# Altium schematic symbol library ELM327.SchLib: 1 symbol
Pins are listed as number, name and electrical type; pins without a type are passive.

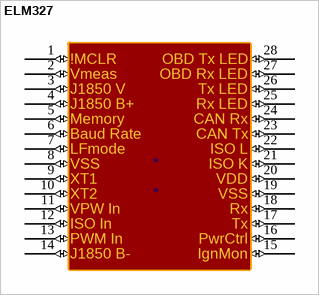
[diagram p0: symbol ELM327]

## ELM327
designator *
footprint DIP28
footprint SOIC28
pins: 1 (io), 2 (io), 3 (io), 4 (io), 5 (io), 6 (io), 7 (io), 8 (io), 9 (io), 10 (io), 11 (io), 12 (io), 13 (io), 14 (io), 15 (io), 16 (io), 17 (io), 18 (io), 19 (io), 20 (io), 21 (io), 22 (io), 23 (io), 24 (io), 25 (io), 26 (io), 27 (io), 28 (io)
text: !MCLR; OBD Tx LED; Vmeas; OBD Rx LED; J1850 V; Tx LED; J1850 B+; Rx LED; Memory; CAN Rx; Baud Rate; CAN Tx; LFmode; ISO L; VSS; ISO K; XT1; VDD; XT2; VPW In; Rx; ISO In; Tx; PWM In; PwrCtrl; J1850 B-; IgnMon